# Altium schematic symbol library Schlib1.SchLib: 1 symbol
Pins are listed as number, name and electrical type; pins without a type are passive.

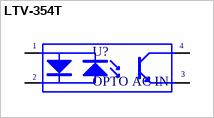
[diagram p0: symbol LTV-354T]

## LTV-354T
designator U?, comment OPTO AC IN
AC INPUT Opto
footprint LTV-354T
pins: 1 A "Anode", 2 K "Cathode", 3 E "Emitter", 4 C "Collector"